# Altium integrated library ASE-25.000MHZ-LC-T.IntLib: 1 symbol
Pins are listed as number, name and electrical type; pins without a type are passive.

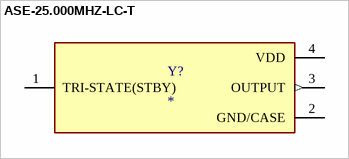
[diagram p0: symbol ASE-25.000MHZ-LC-T]

## ASE-25.000MHZ-LC-T
designator Y?
MP: ASE-25.000MHZ-LC-T; Value: *; Package: None; Price: None; Availability: Unavailable
footprint XTAL_ASE-25.000MHZ-LC-T
pins: 1 TRI-STATE(STBY), 2 GND/CASE (power), 3 OUTPUT (out), 4 VDD (power)